# EAGLE library part UJ2-MIBH-4-SMT-TR-67 (library WatchDawg - UJ2-MIBH-4-SMT-TR-67)
Micro B, USB 2.0, 1.8 A, Right Angle, Surface Mount (SMT), Waterproof, USB Receptacle
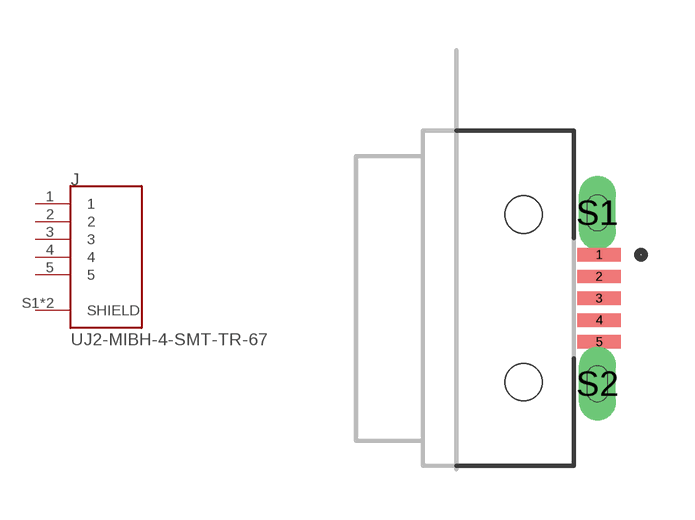
[diagram p0: symbol with the pads of CUI_UJ2-MIBH-4-SMT-TR-67; footprint CUI_UJ2-MIBH-4-SMT-TR-67]

Designator prefix J

## UJ2-MIBH-4-SMT-TR-67 (MANUFACTURER: CUI Inc; PARTREV: 1.0; STANDARD: Manufacturer Recommendations)  [CUI_UJ2-MIBH-4-SMT-TR-67]
1  1  pas
2  2  pas
3  3  pas
4  4  pas
5  5  pas
S1  SHIELD  pas
S2  SHIELD  pas

## Footprint CUI_UJ2-MIBH-4-SMT-TR-67 (pad centres in mm)
smd 1.3 x 0.4: 1 4.25,1.3; 2 4.25,0.65; 3 4.25,0; 4 4.25,-0.65; 5 4.25,-1.3
drill 0.6 pad 0.9 long: S1 4.2,2.55; S2 4.2,-2.55
hole 1.1 at 2,2.5
hole 1.1 at 2,-2.5